# Altium footprint library 预驱芯片.PcbLib: 5 footprints
Each footprint in its own frame and in the unit in brackets; x right, y up, seen from the top. Pads: shape width x height; smd on the part's side, far side on the other; paste and mask are expansions set on the pad; w line width, h text height; cw(c..) or ccw(c..) is an arc to the next point about the centre after c.
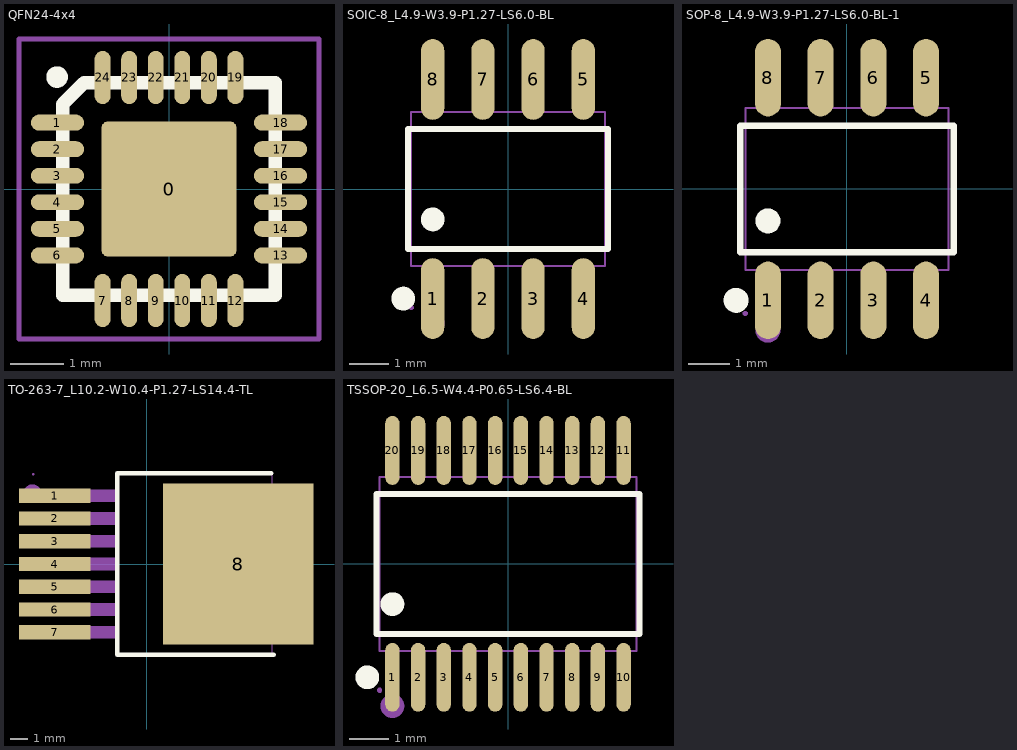
[diagram p0: the footprints below, top view; thin cyan lines are the x and y axes]

## QFN24-4x4 [mm]
height 1.6
pads (25):
  rrect10% 2.55x2.55 smd: 0(0,0)
  oval 1x0.3 smd: 1(-2.1,1.25) 2(-2.1,0.75) 3(-2.1,0.25) 4(-2.1,-0.25) 5(-2.1,-0.75) 6(-2.1,-1.25) 13(2.1,-1.25) 14(2.1,-0.75) 15(2.1,-0.25) 16(2.1,0.25) 17(2.1,0.75) 18(2.1,1.25)
  oval 0.3x1 smd: 7(-1.25,-2.1) 8(-0.75,-2.1) 9(-0.25,-2.1) 10(0.25,-2.1) 11(0.75,-2.1) 12(1.25,-2.1) 19(1.25,2.1) 20(0.75,2.1) 21(0.25,2.1) 22(-0.25,2.1) 23(-0.75,2.1) 24(-1.25,2.1)
Top Overlay:
  circle w0.203: c-2.108,2.108 r0.102
  lines w0.254: -2,-2 2,-2 2,2 -1.6,2 -2,1.6 -2,-2
Top Designator:
  text ".Designator" at -2.252,-0.226 h1
Top Component Outline:
  lines w0.1: -2.825,-2.825 2.825,-2.825 2.825,2.825 -2.825,2.825 -2.825,-2.825
Top Component Center:
  circle w0.05: c0,0 r0.225
  lines w0.05: -0.45,0 0.45,0 ; 0,-0.45 0,0.45
3D body "User Library-QFN 24 4x4.step": height 0.9, standoff 0, extent -2.002,-2.002 2.002,2.002

## SOIC-8_L4.9-W3.9-P1.27-LS6.0-BL [mm]
pads (8):
  oval 0.588x2.045 smd: 1(-1.905,-2.772) 2(-0.635,-2.772) 3(0.635,-2.772) 4(1.905,-2.772) 5(1.905,2.772) 6(0.635,2.772) 7(-0.635,2.772) 8(-1.905,2.772)
Top Overlay:
  circle w0.3: c-2.652,-2.772 r0.15
  circle w0.3: c-1.905,-0.769 r0.15
  lines w0.152: -2.526,-1.521 2.526,-1.521 2.526,1.521 -2.526,1.521 -2.526,-1.521
Mechanical 6:
  circle w0.3: c-1.905,-3.4 r0.15
Mechanical 15:
  region: 1.695,2.175 1.695,1.94 2.115,1.94 2.115,2.175
  region: 1.695,3 1.695,2.165 2.115,2.165 2.115,3
  region: 0.425,2.175 0.425,1.94 0.845,1.94 0.845,2.175
  region: 0.425,3 0.425,2.165 0.845,2.165 0.845,3
  region: -0.845,2.175 -0.845,1.94 -0.425,1.94 -0.425,2.175
  region: -0.845,3 -0.845,2.165 -0.425,2.165 -0.425,3
  region: -2.115,2.175 -2.115,1.94 -1.695,1.94 -1.695,2.175
  region: -2.115,3 -2.115,2.165 -1.695,2.165 -1.695,3
  region: 1.695,-2.175 1.695,-1.94 2.115,-1.94 2.115,-2.175
  region: 1.695,-3 1.695,-2.165 2.115,-2.165 2.115,-3
  region: 0.425,-2.175 0.425,-1.94 0.845,-1.94 0.845,-2.175
  region: 0.425,-3 0.425,-2.165 0.845,-2.165 0.845,-3
  region: -0.845,-2.175 -0.845,-1.94 -0.425,-1.94 -0.425,-2.175
  region: -0.845,-3 -0.845,-2.165 -0.425,-2.165 -0.425,-3
  region: -2.115,-2.175 -2.115,-1.94 -1.695,-1.94 -1.695,-2.175
  region: -2.115,-3 -2.115,-2.165 -1.695,-2.165 -1.695,-3
  region: -2.39,-3 -2.391,-2.976 -2.426,-2.941 -2.475,-2.941 -2.51,-2.975 -2.51,-3 -2.51,-3.024 -2.475,-3.059 -2.426,-3.059 -2.391,-3.024 -2.39,-3
  lines w0.051: -2.45,-1.95 2.45,-1.95 2.45,1.95 -2.45,1.95 -2.45,-1.95

## SOP-8_L4.9-W3.9-P1.27-LS6.0-BL-1 [mm]
pads (8):
  oval 0.63x1.865 smd: 1(-1.905,-2.683) 2(-0.635,-2.683) 3(0.635,-2.683) 4(1.905,-2.683) 5(1.905,2.682) 6(0.635,2.682) 7(-0.635,2.682) 8(-1.905,2.682)
Top Overlay:
  circle w0.3: c-2.672,-2.683 r0.15
  circle w0.3: c-1.905,-0.769 r0.15
  lines w0.152: -2.576,-1.521 -2.576,1.521 2.576,1.521 2.576,-1.521 -2.576,-1.521
Mechanical 6:
  circle w0.3: c-1.905,-3.4 r0.15
Mechanical 15:
  region: -2.39,-3 -2.391,-2.976 -2.426,-2.941 -2.475,-2.941 -2.509,-2.976 -2.51,-3 -2.509,-3.025 -2.474,-3.059 -2.426,-3.059 -2.391,-3.025 -2.39,-3
  region: -2.12,-2.36 -2.12,-1.94 -1.69,-1.94 -1.69,-2.36
  region: -2.12,-3 -2.12,-2.35 -1.69,-2.35 -1.69,-3
  region: -0.85,-2.36 -0.85,-1.94 -0.42,-1.94 -0.42,-2.36
  region: -0.85,-3 -0.85,-2.35 -0.42,-2.35 -0.42,-3
  region: 0.42,-2.36 0.42,-1.94 0.85,-1.94 0.85,-2.36
  region: 0.42,-3 0.42,-2.35 0.85,-2.35 0.85,-3
  region: 1.69,-2.36 1.69,-1.94 2.12,-1.94 2.12,-2.36
  region: 1.69,-3 1.69,-2.35 2.12,-2.35 2.12,-3
  region: -2.12,1.94 -2.12,2.36 -1.69,2.36 -1.69,1.94
  region: -2.12,2.35 -2.12,3 -1.69,3 -1.69,2.35
  region: -0.85,1.94 -0.85,2.36 -0.42,2.36 -0.42,1.94
  region: -0.85,2.35 -0.85,3 -0.42,3 -0.42,2.35
  region: 0.42,1.94 0.42,2.36 0.85,2.36 0.85,1.94
  region: 0.42,2.35 0.42,3 0.85,3 0.85,2.35
  region: 1.69,1.94 1.69,2.36 2.12,2.36 2.12,1.94
  region: 1.69,2.35 1.69,3 2.12,3 2.12,2.35
  lines w0.051: -2.45,-1.95 -2.45,1.95 2.45,1.95 2.45,-1.95 -2.45,-1.95

## TO-263-7_L10.2-W10.4-P1.27-LS14.4-TL [mm]
pads (8):
  rect 4x0.8 smd: 1(-5.123,3.81) 2(-5.123,2.54) 3(-5.123,1.27) 4(-5.123,0) 5(-5.123,-1.27) 6(-5.123,-2.54) 7(-5.123,-3.81)
  rect 8.4x9 smd: 8(5.123,0)
Top Overlay:
  lines w0.254: 6.958,5.076 -1.649,5.076 -1.649,-5.076 7.085,-5.076
Mechanical 6:
  circle w0.5: c-6.377,3.937 r0.25
Mechanical 15:
  region: -6.017,-4.152 -6.017,-3.468 -4.037,-3.468 -4.037,-4.152
  region: -4.047,-4.152 -4.047,-3.468 -1.567,-3.468 -1.567,-4.152
  region: -6.017,-2.882 -6.017,-2.198 -4.037,-2.198 -4.037,-2.882
  region: -4.047,-2.882 -4.047,-2.198 -1.567,-2.198 -1.567,-2.882
  region: -6.017,-1.612 -6.017,-0.928 -4.037,-0.928 -4.037,-1.612
  region: -4.047,-1.612 -4.047,-0.928 -1.567,-0.928 -1.567,-1.612
  region: -6.017,-0.342 -6.017,0.342 -4.037,0.342 -4.037,-0.342
  region: -4.047,-0.342 -4.047,0.342 -1.567,0.342 -1.567,-0.342
  region: -6.017,0.928 -6.017,1.612 -4.037,1.612 -4.037,0.928
  region: -4.047,0.928 -4.047,1.612 -1.567,1.612 -1.567,0.928
  region: -6.017,2.198 -6.017,2.882 -4.037,2.882 -4.037,2.198
  region: -4.047,2.198 -4.047,2.882 -1.567,2.882 -1.567,2.198
  region: -6.017,3.468 -6.017,4.152 -4.037,4.152 -4.037,3.468
  region: -4.047,3.468 -4.047,4.152 -1.567,4.152 -1.567,3.468
  region: 1.84,-4.25 1.84,4.25 7.447,4.25 8.298,3.4 8.297,-3.4 7.447,-4.25
  region: -6.262,5 -6.262,5.025 -6.298,5.06 -6.347,5.06 -6.382,5.025 -6.382,5 -6.382,4.975 -6.347,4.94 -6.298,4.94 -6.262,4.975 -6.262,5
  lines w0.051: -1.573,-5.1 7.018,-5.1 7.018,5.1 -1.573,5.1 -1.573,-5.1

## TSSOP-20_L6.5-W4.4-P0.65-LS6.4-BL [mm]
pads (20):
  oval 0.364x1.742 smd: 1(-2.925,-2.871) 2(-2.275,-2.871) 3(-1.625,-2.871) 4(-0.975,-2.871) 5(-0.325,-2.871) 6(0.325,-2.871) 7(0.975,-2.871) 8(1.625,-2.871) 9(2.275,-2.871) 10(2.925,-2.871) 11(2.925,2.871) 12(2.275,2.871) 13(1.625,2.871) 14(0.975,2.871) 15(0.325,2.871) 16(-0.325,2.871) 17(-0.975,2.871) 18(-1.625,2.871) 19(-2.275,2.871) 20(-2.925,2.871)
Top Overlay:
  circle w0.3: c-2.925,-1.019 r0.15
  circle w0.3: c-3.559,-2.871 r0.15
  lines w0.152: -3.326,-1.771 -3.326,1.771 3.326,1.771 3.326,-1.771 -3.326,-1.771
Mechanical 6:
  circle w0.3: c-2.925,-3.6 r0.15
Mechanical 15:
  drawing of 45 lines, arcs and shapes, not listed